# Altium integrated library Actel ProASIC3.IntLib: 427 symbols (part 23 of 68)
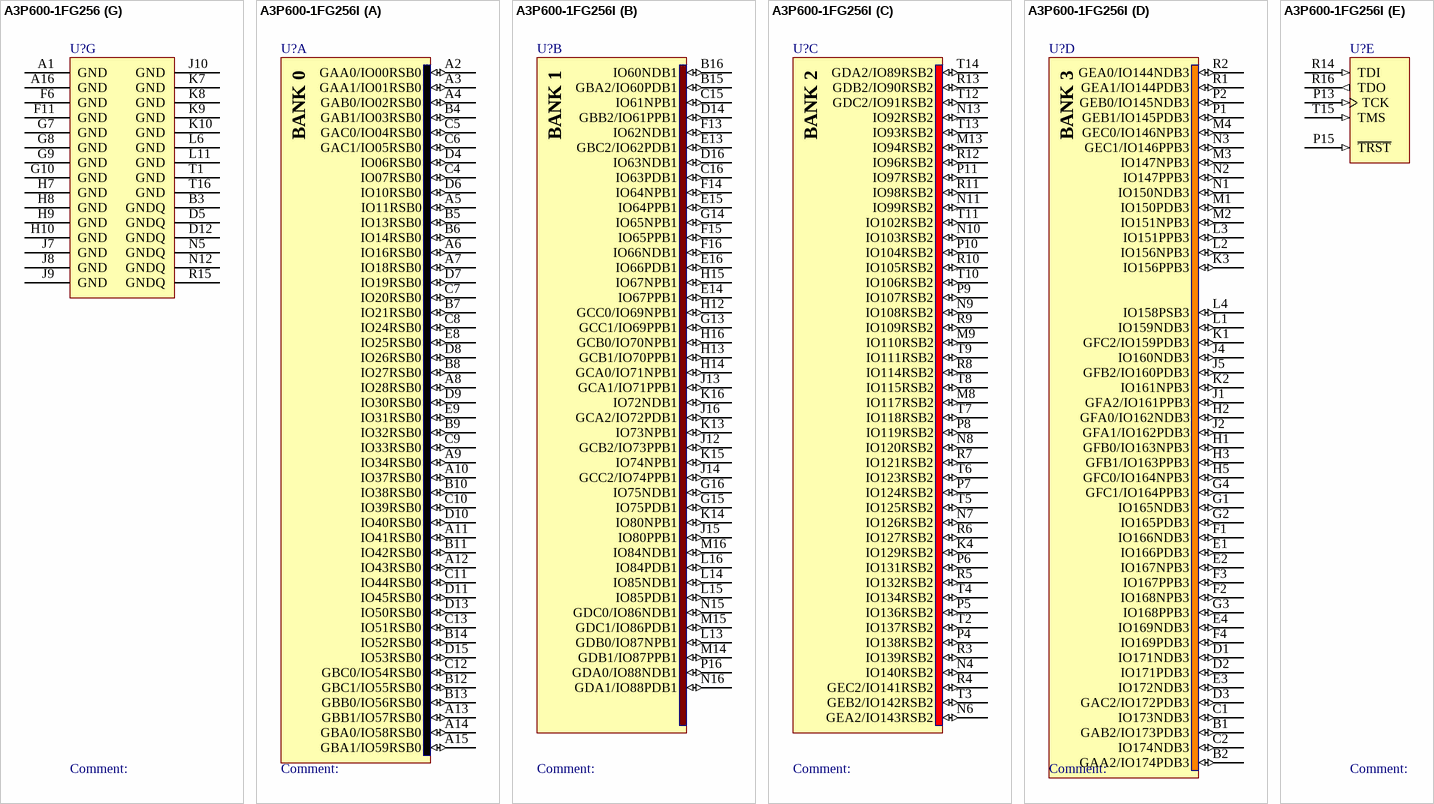
[diagram p412: symbols A3P600-1FG256 to A3P600-1FG256I]

## A3P600-1FG256
designator U?
ProASIC3 Flash Family FPGA, 177 User IOs, 600K System Gates, 108 Kbits RAM, 1 Kbit Flash ROM, 1 PLL, 256-Ball FBGA, Commercial Grade; Published: 4-Mar-2005; LatestRevisionDate: 30-Apr-2009; LatestRevisionNote: Made pin name TRST active low.; DatasheetVersion: v1.1, Feb-2009; PackageVersion: v11.0, Feb-2009; PackageReference: FG256; Publisher: Altium Limited; PackageDescription: 256-Ball Fine Pitch Plastic Ball Grid Array (FG256); Code_JEDEC: MO-192-DAF-1; ComponentLink1Description: Manufacturer Link; ComponentLink1URL: http://www.actel.com/products/pa3/; ComponentLink2Description: Datasheet; ComponentLink2URL: http://www.actel.com/documents/PA3_DS.pdf; ComponentLink3Description: Packaging Specification; ComponentLink3URL: http://www.actel.com/documents/PckgMechDrwngs.pdf
footprint FG256 (BGA, 256-Leads, Body 17x17mm, Pitch 1mm)
3D model A3P600-FG256 (256-Ball Fine Pitch Plastic Ball Grid Array (FG256))
signal-integrity model A3P600_FG256 (ProASIC3)
part A pins: A2 GAA0/IO00RSB0 (io), A3 GAA1/IO01RSB0 (io), A4 GAB0/IO02RSB0 (io), A5 IO11RSB0 (io), A6 IO16RSB0 (io), A7 IO18RSB0 (io), A8 IO28RSB0 (io), A9 IO34RSB0 (io), A10 IO37RSB0 (io), A11 IO41RSB0 (io), A12 IO43RSB0 (io), A13 GBB1/IO57RSB0 (io), A14 GBA0/IO58RSB0 (io), A15 GBA1/IO59RSB0 (io), B4 GAB1/IO03RSB0 (io), B5 IO13RSB0 (io), B6 IO14RSB0 (io), B7 IO21RSB0 (io), B8 IO27RSB0 (io), B9 IO32RSB0 (io), B10 IO38RSB0 (io), B11 IO42RSB0 (io), B12 GBC1/IO55RSB0 (io), B13 GBB0/IO56RSB0 (io), B14 IO52RSB0 (io), C4 IO07RSB0 (io), C5 GAC0/IO04RSB0 (io), C6 GAC1/IO05RSB0 (io), C7 IO20RSB0 (io), C8 IO24RSB0 (io), C9 IO33RSB0 (io), C10 IO39RSB0 (io), C11 IO44RSB0 (io), C12 GBC0/IO54RSB0 (io), C13 IO51RSB0 (io), D4 IO06RSB0 (io), D6 IO10RSB0 (io), D7 IO19RSB0 (io), D8 IO26RSB0 (io), D9 IO30RSB0 (io), D10 IO40RSB0 (io), D11 IO45RSB0 (io), D13 IO50RSB0 (io), D15 IO53RSB0 (io), E8 IO25RSB0 (io), E9 IO31RSB0 (io)
part B pins: B15 GBA2/IO60PDB1 (io), B16 IO60NDB1 (io), C15 IO61NPB1 (io), C16 IO63PDB1 (io), D14 GBB2/IO61PPB1 (io), D16 IO63NDB1 (io), E13 GBC2/IO62PDB1 (io), E14 IO67PPB1 (io), E15 IO64PPB1 (io), E16 IO66PDB1 (io), F13 IO62NDB1 (io), F14 IO64NPB1 (io), F15 IO65PPB1 (io), F16 IO66NDB1 (io), G13 GCC1/IO69PPB1 (io), G14 IO65NPB1 (io), G15 IO75PDB1 (io), G16 IO75NDB1 (io), H12 GCC0/IO69NPB1 (io), H13 GCB1/IO70PPB1 (io), H14 GCA0/IO71NPB1 (io), H15 IO67NPB1 (io), H16 GCB0/IO70NPB1 (io), J12 GCB2/IO73PPB1 (io), J13 GCA1/IO71PPB1 (io), J14 GCC2/IO74PPB1 (io), J15 IO80PPB1 (io), J16 GCA2/IO72PDB1 (io), K13 IO73NPB1 (io), K14 IO80NPB1 (io), K15 IO74NPB1 (io), K16 IO72NDB1 (io), L13 GDB0/IO87NPB1 (io), L14 IO85NDB1 (io), L15 IO85PDB1 (io), L16 IO84PDB1 (io), M14 GDB1/IO87PPB1 (io), M15 GDC1/IO86PDB1 (io), M16 IO84NDB1 (io), N15 GDC0/IO86NDB1 (io), N16 GDA1/IO88PDB1 (io), P16 GDA0/IO88NDB1 (io)
part C pins: K4 IO129RSB2 (io), M8 IO117RSB2 (io), M9 IO110RSB2 (io), M13 IO94RSB2 (io), N4 IO140RSB2 (io), N6 GEA2/IO143RSB2 (io), N7 IO126RSB2 (io), N8 IO120RSB2 (io), N9 IO108RSB2 (io), N10 IO103RSB2 (io), N11 IO99RSB2 (io), N13 IO92RSB2 (io), P4 IO138RSB2 (io), P5 IO136RSB2 (io), P6 IO131RSB2 (io), P7 IO124RSB2 (io), P8 IO119RSB2 (io), P9 IO107RSB2 (io), P10 IO104RSB2 (io), P11 IO97RSB2 (io), R3 IO139RSB2 (io), R4 GEC2/IO141RSB2 (io), R5 IO132RSB2 (io), R6 IO127RSB2 (io), R7 IO121RSB2 (io), R8 IO114RSB2 (io), R9 IO109RSB2 (io), R10 IO105RSB2 (io), R11 IO98RSB2 (io), R12 IO96RSB2 (io), R13 GDB2/IO90RSB2 (io), T2 IO137RSB2 (io), T3 GEB2/IO142RSB2 (io), T4 IO134RSB2 (io), T5 IO125RSB2 (io), T6 IO123RSB2 (io), T7 IO118RSB2 (io), T8 IO115RSB2 (io), T9 IO111RSB2 (io), T10 IO106RSB2 (io), T11 IO102RSB2 (io), T12 GDC2/IO91RSB2 (io), T13 IO93RSB2 (io), T14 GDA2/IO89RSB2 (io)
part D pins: B1 GAB2/IO173PDB3 (io), B2 GAA2/IO174PDB3 (io), C1 IO173NDB3 (io), C2 IO174NDB3 (io), D1 IO171NDB3 (io), D2 IO171PDB3 (io), D3 GAC2/IO172PDB3 (io), E1 IO166PDB3 (io), E2 IO167NPB3 (io), E3 IO172NDB3 (io), E4 IO169NDB3 (io), F1 IO166NDB3 (io), F2 IO168NPB3 (io), F3 IO167PPB3 (io), F4 IO169PDB3 (io), G1 IO165NDB3 (io), G2 IO165PDB3 (io), G3 IO168PPB3 (io), G4 GFC1/IO164PPB3 (io), H1 GFB0/IO163NPB3 (io), H2 GFA0/IO162NDB3 (io), H3 GFB1/IO163PPB3 (io), H5 GFC0/IO164NPB3 (io), J1 GFA2/IO161PPB3 (io), J2 GFA1/IO162PDB3 (io), J4 IO160NDB3 (io), J5 GFB2/IO160PDB3 (io), K1 GFC2/IO159PDB3 (io), K2 IO161NPB3 (io), K3 IO156PPB3 (io), L1 IO159NDB3 (io), L2 IO156NPB3 (io), L3 IO151PPB3 (io), L4 IO158PSB3 (io), M1 IO150PDB3 (io), M2 IO151NPB3 (io), M3 IO147NPB3 (io), M4 GEC0/IO146NPB3 (io), N1 IO150NDB3 (io), N2 IO147PPB3 (io), N3 GEC1/IO146PPB3 (io), P1 GEB1/IO145PDB3 (io), P2 GEB0/IO145NDB3 (io), R1 GEA1/IO144PDB3 (io), R2 GEA0/IO144NDB3 (io)
part E pins: P13 TCK (in), P15 ~{TRST} (in), R14 TDI (in), R16 TDO (out), T15 TMS (in)
part F pins: C3 VMV3 (power), C14 VMV0 (power), E5 VMV0 (power), E6 VCCIB0 (power), E7 VCCIB0 (power), E10 VCCIB0 (power), E11 VCCIB0 (power), E12 VMV1 (power), F5 VCCIB3 (power), F7 VCC (power), F8 VCC (power), F9 VCC (power), F10 VCC (power), F12 VCCIB1 (power), G5 VCCIB3 (power), G6 VCC (power), G11 VCC (power), G12 VCCIB1 (power), H4 VCOMPLF (power), H6 VCC (power), H11 VCC (power), J3 VCCPLF (power), J6 VCC (power), J11 VCC (power), K5 VCCIB3 (power), K6 VCC (power), K11 VCC (power), K12 VCCIB1 (power), L5 VCCIB3 (power), L7 VCC (power), L8 VCC (power), L9 VCC (power), L10 VCC (power), L12 VCCIB1 (power), M5 VMV3 (power), M6 VCCIB2 (power), M7 VCCIB2 (power), M10 VCCIB2 (power), M11 VCCIB2 (power), M12 VMV2 (power), N14 VJTAG (power), P3 VMV2 (power), P12 VMV1 (power), P14 VPUMP (power)
part G pins: A1 GND (power), A16 GND (power), B3 GNDQ (power), D5 GNDQ (power), D12 GNDQ (power), F6 GND (power), F11 GND (power), G7 GND (power), G8 GND (power), G9 GND (power), G10 GND (power), H7 GND (power), H8 GND (power), H9 GND (power), H10 GND (power), J7 GND (power), J8 GND (power), J9 GND (power), J10 GND (power), K7 GND (power), K8 GND (power), K9 GND (power), K10 GND (power), L6 GND (power), L11 GND (power), N5 GNDQ (power), N12 GNDQ (power), R15 GNDQ (power), T1 GND (power), T16 GND (power)
part A text: BANK 0
part B text: BANK 1
part C text: BANK 2
part D text: BANK 3

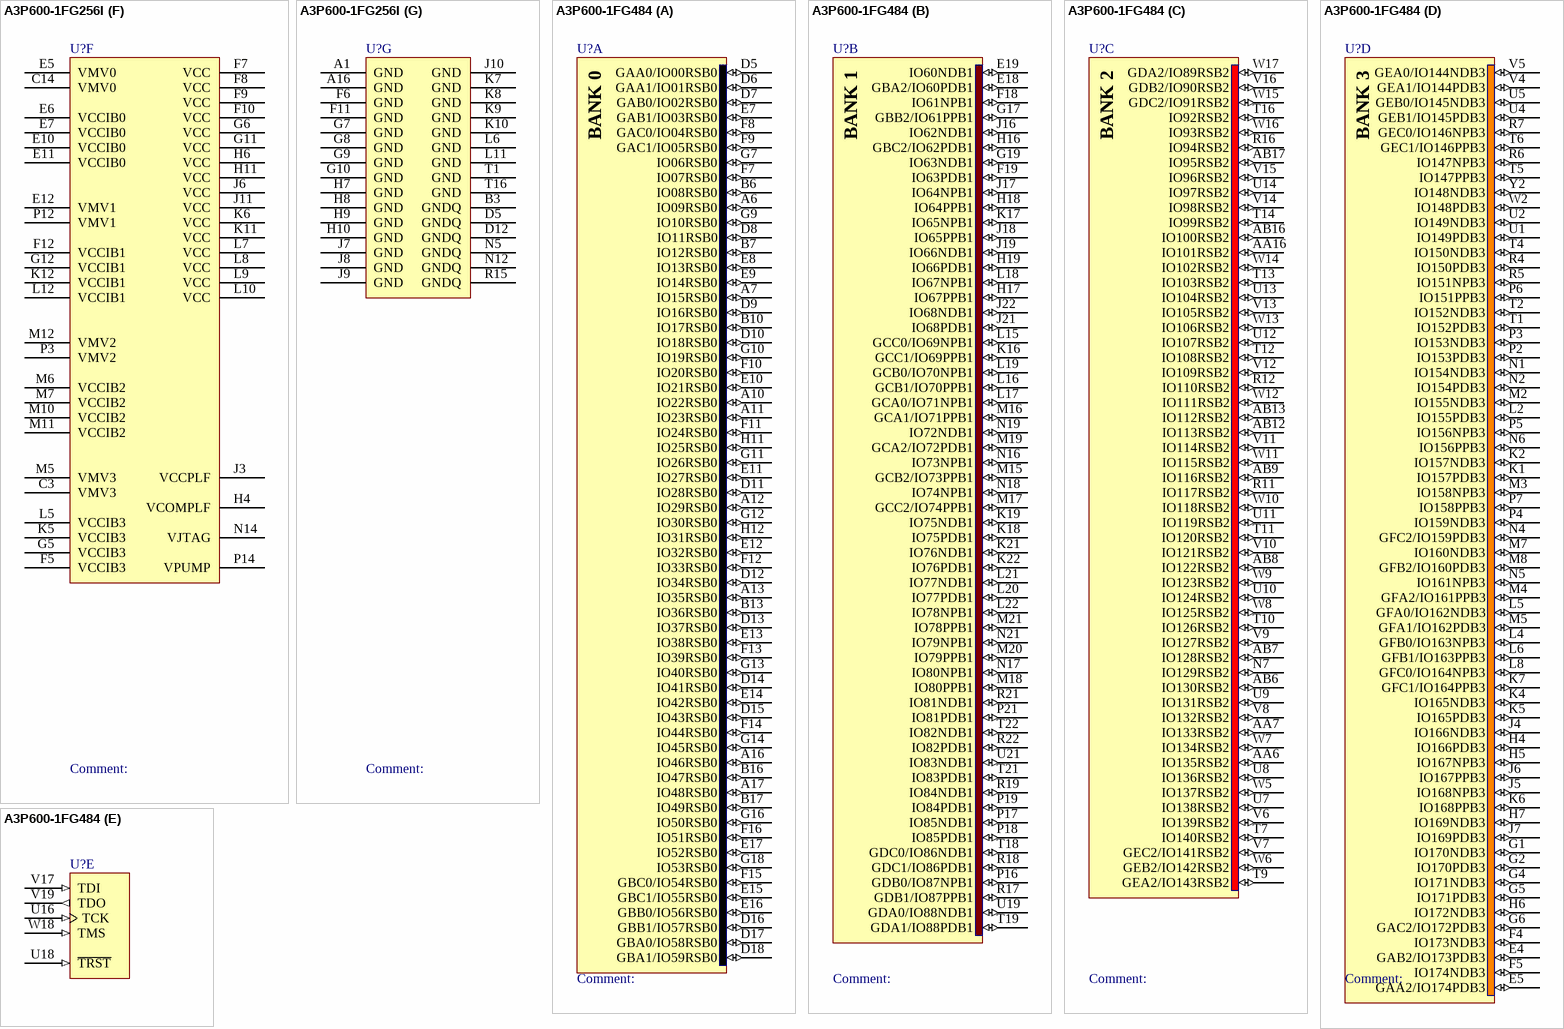
[diagram p97: symbols A3P600-1FG256I to A3P600-1FG484]